# Altium schematic symbol library LTC6811-1.SchLib: 1 symbol
Pins are listed as number, name and electrical type; pins without a type are passive.

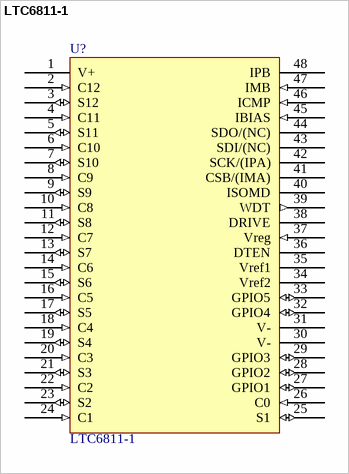
[diagram p0: symbol LTC6811-1]

## LTC6811-1
designator U?
footprint LTC6811-1 (SSOP, 48-Leads, Body 12.80x5.50mm, Pitch 0.50mm, IPC Medium Density)
pins: 1 V+ (power) "Positive Supply Pin", 2 C12 (in) "Cell Input", 3 S12 (io) "Balance Pin", 4 C11 (in) "Positive Supply Pin", 5 S11 (io) "Positive Supply Pin", 6 C10 (in) "Positive Supply Pin", 7 S10 (io) "Positive Supply Pin", 8 C9 (in) "Cell Input", 9 S9 (io) "Balance Pin", 10 C8 (in) "Positive Supply Pin", 11 S8 (io) "Balance Pin", 12 C7 (in) "Positive Supply Pin", 13 S7 (io) "Positive Supply Pin", 14 C6 (in) "Positive Supply Pin", 15 S6 (io) "Balance Pin", 16 C5 (in) "Positive Supply Pin", 17 S5 (io) "Positive Supply Pin", 18 C4 (in) "Positive Supply Pin", 19 S4 (io) "Positive Supply Pin", 20 C3 (in) "Positive Supply Pin", 21 S3 (io) "Positive Supply Pin", 22 C2 (in) "Positive Supply Pin", 23 S2 (io) "Positive Supply Pin", 24 C1 (in) "Cell Input", 25 S1 (io) "Positive Supply Pin", 26 C0 (in) "Positive Supply Pin", 27 GPIO1 (io) "Positive Supply Pin", 28 GPIO2 (io) "General", 29 GPIO3 (io) "Positive Supply Pin", 30 V- (power) "Positive Supply Pin", 31 V- (power) "Positive Supply Pin", 32 GPIO4 (io) "Positive Supply Pin", 33 GPIO5 (io) "Positive Supply Pin", 34 Vref2 "Positive Supply Pin", 35 Vref1 "Positive Supply Pin", 36 DTEN "Positive Supply Pin", 37 Vreg (in) "Positive Supply Pin", 38 DRIVE "Positive Supply Pin", 39 WDT (out) "Positive Supply Pin", 40 ISOMD "Positive Supply Pin", 41 CSB/(IMA) "Positive Supply Pin", 42 SCK/(IPA) "Positive Supply Pin", 43 SDI/(NC) "Positive Supply Pin", 44 SDO/(NC) "Positive Supply Pin", 45 IBIAS (in) "Positive Supply Pin", 46 ICMP (in) "Positive Supply Pin", 47 IMB (in) "Positive Supply Pin", 48 IPB "Positive Supply Pin"